# EAGLE library part JST_ZH_6-PIN (library Strawson_Eagle_Lib)
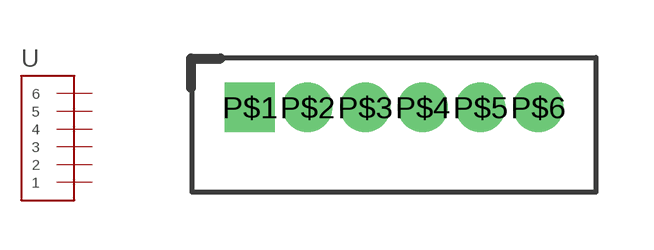
[diagram p4: symbol with the pads of JST_ZH_6-PIN; footprint JST_ZH_6-PIN]

Designator prefix -

## JST_ZH_6-PIN  [JST_ZH_6-PIN]
P$1  1
P$2  2
P$3  3
P$4  4
P$5  5
P$6  6

## Footprint JST_ZH_6-PIN (pad centres in mm)
drill 0.787 square: P$1 0,0
drill 0.787: P$2 1.499,0; P$3 2.997,0; P$4 4.496,0; P$5 5.994,0; P$6 7.493,0